# EAGLE library part DMN4031SSD (library peripheral)
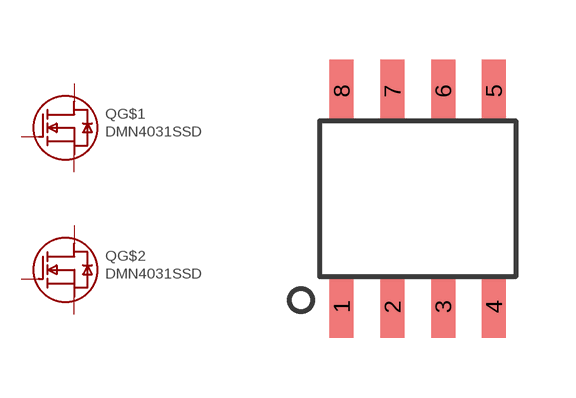
[diagram p0: symbol with the pads of SO-8; footprint SO-8]

Designator prefix Q; gates G$1=NFET G$2=NFET

## DMN4031SSD  [SO-8]
1  G$2:S
2  G$2:G
3  G$1:S
4  G$1:G
5  G$1:D
6  G$1:D
7  G$2:D
8  G$2:D

## Footprint SO-8 (pad centres in mm)
smd 0.6 x 1.55: 1 -1.905,-2.7; 2 -0.635,-2.7; 3 0.635,-2.7; 4 1.905,-2.7; 5 1.905,2.7; 6 0.635,2.7; 7 -0.635,2.7; 8 -1.905,2.7